# Altium footprint library QUTMS_Microfit.PcbLib: 64 footprints (part 2 of 4)
Each footprint in its own frame and in the unit in brackets; x right, y up, seen from the top. Pads: shape width x height; smd on the part's side, far side on the other; paste and mask are expansions set on the pad; w line width, h text height; cw(c..) or ccw(c..) is an arc to the next point about the centre after c.
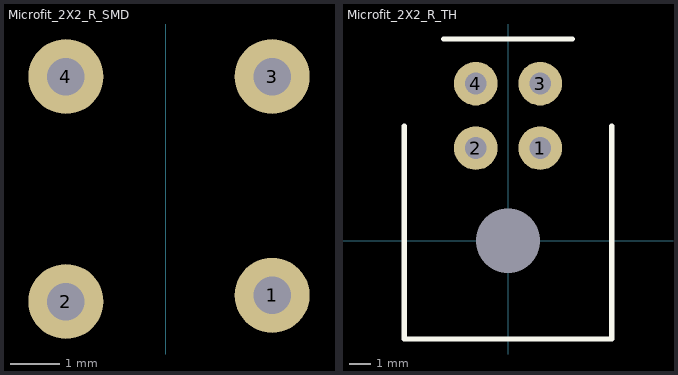
[diagram p1: the footprints below, top view; thin cyan lines are the x and y axes]

## Microfit_1X6_R_SMD [mil]

## Microfit_1X6_R_TH [mil]

## Microfit_1X6_V_SMD [mil]

## Microfit_1X6_V_TH [mil]

## Microfit_1X8_R_SMD [mil]

## Microfit_1X8_R_TH [mil]

## Microfit_1X8_V_SMD [mil]

## Microfit_1X8_V_TH [mil]

## Microfit_1X10_R_SMD [mil]

## Microfit_1X10_R_TH [mil]

## Microfit_1X10_V_SMD [mil]

## Microfit_1X10_V_TH [mil]

## Microfit_2X2_R_SMD [mil]
pads (4):
  round 60 hole 30: 1(85,75) 2(-80,70) 3(85,250) 4(-80,250)

## Microfit_2X2_R_TH [mil]
pads (5):
  round 80 hole 40: 1(59.06,170) 2(-59.06,170) 3(59.06,288.19) 4(-59.06,288.19)
  round 0 hole 118.11 mask+10: NC(0,0)
Top Overlay:
  lines w10: -190,210 -190,-180 190,-180 190,210 ; -118.11,370 118.11,370
3D body "430450400.stp": height 350.16, standoff -120.31, extent -199.8,-180.07 199.81,301.81

## Microfit_2X2_V_SMD [mil]

## Microfit_2X2_V_TH [mil]